# EAGLE library part FH36-45S-0.3SHW(50) (library con-hirose-fh36-series)
HIROSE FH36 SERIES CATALOG <https://www.hirose.com/en/product/document?clcode=CL0580-1620-0-50&productname=FH36W-39S-0.3SHW(50)&series=FH36&documenttype=Catalog&lang=en&documentid=D49359_en> HIROSE FH36 PRODUCT PAGE <https://www.hirose.com/product/p/CL0580-1620-0-50#documentSection>
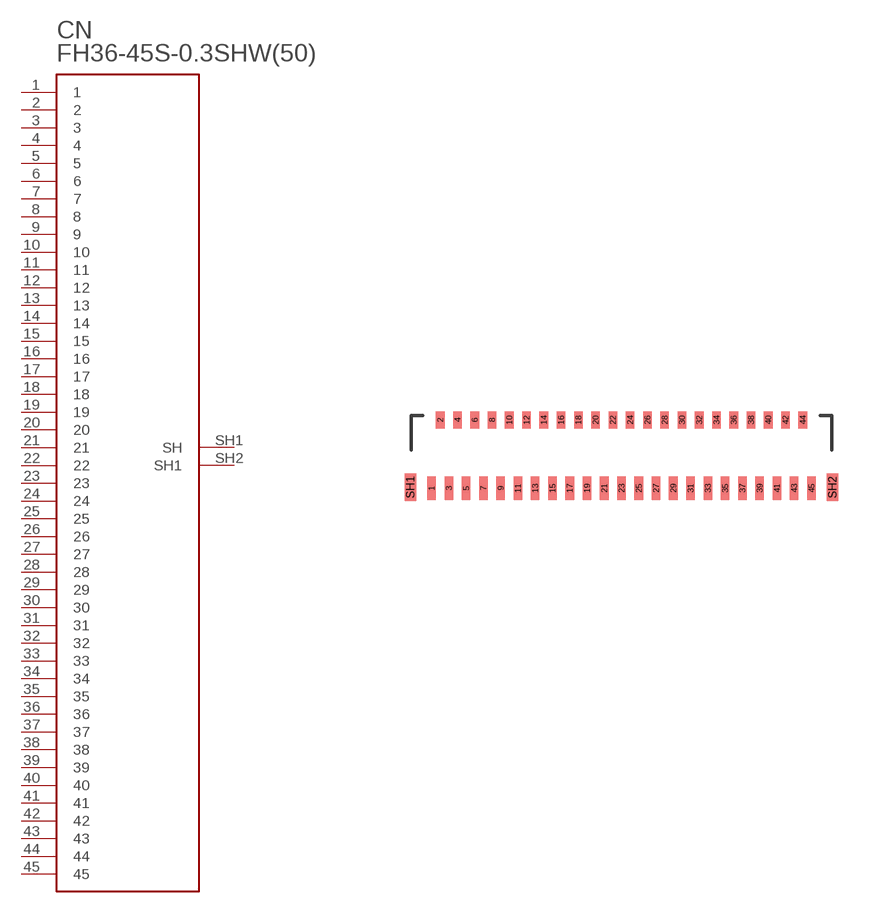
[diagram p7: symbol with the pads of FH36(W)-45; footprint FH36(W)-45]

Designator prefix CN

## FH36-45S-0.3SHW(50)  [FH36(W)-45]
1  1
2  2
3  3
4  4
5  5
6  6
7  7
8  8
9  9
10  10
11  11
12  12
13  13
14  14
15  15
16  16
17  17
18  18
19  19
20  20
21  21
22  22
23  23
24  24
25  25
26  26
27  27
28  28
29  29
30  30
31  31
32  32
33  33
34  34
35  35
36  36
37  37
38  38
39  39
40  40
41  41
42  42
43  43
44  44
45  45
SH1  SH
SH2  SH1

## Footprint FH36(W)-45 (pad centres in mm)
smd 0.3 x 0.8: 1 -6.6,-1.235; 3 -6,-1.235; 5 -5.4,-1.235; 7 -4.8,-1.235; 9 -4.2,-1.235; 11 -3.6,-1.235; 13 -3,-1.235; 15 -2.4,-1.235; 17 -1.8,-1.235; 19 -1.2,-1.235; 21 -0.6,-1.235; 23 0,-1.235; 25 0.6,-1.235; 27 1.2,-1.235; 29 1.8,-1.235; 31 2.4,-1.235; 33 3,-1.235; 35 3.6,-1.235; 37 4.2,-1.235; 39 4.8,-1.235; 41 5.4,-1.235; 43 6,-1.235; 45 6.6,-1.235
smd 0.3 x 0.6: 2 -6.3,1.135; 4 -5.7,1.135; 6 -5.1,1.135; 8 -4.5,1.135; 10 -3.9,1.135; 12 -3.3,1.135; 14 -2.7,1.135; 16 -2.1,1.135; 18 -1.5,1.135; 20 -0.9,1.135; 22 -0.3,1.135; 24 0.3,1.135; 26 0.9,1.135; 28 1.5,1.135; 30 2.1,1.135; 32 2.7,1.135; 34 3.3,1.135; 36 3.9,1.135; 38 4.5,1.135; 40 5.1,1.135; 42 5.7,1.135; 44 6.3,1.135
smd 0.4 x 0.95: SH1 -7.335,-1.2; SH2 7.335,-1.2